# Altium footprint library con-molex-micro-fit-3_0.PCBLIB: 194 footprints (part 11 of 13)
Each footprint in its own frame and in the unit in brackets; x right, y up, seen from the top. Pads: shape width x height; smd on the part's side, far side on the other; paste and mask are expansions set on the pad; w line width, h text height; cw(c..) or ccw(c..) is an arc to the next point about the centre after c.
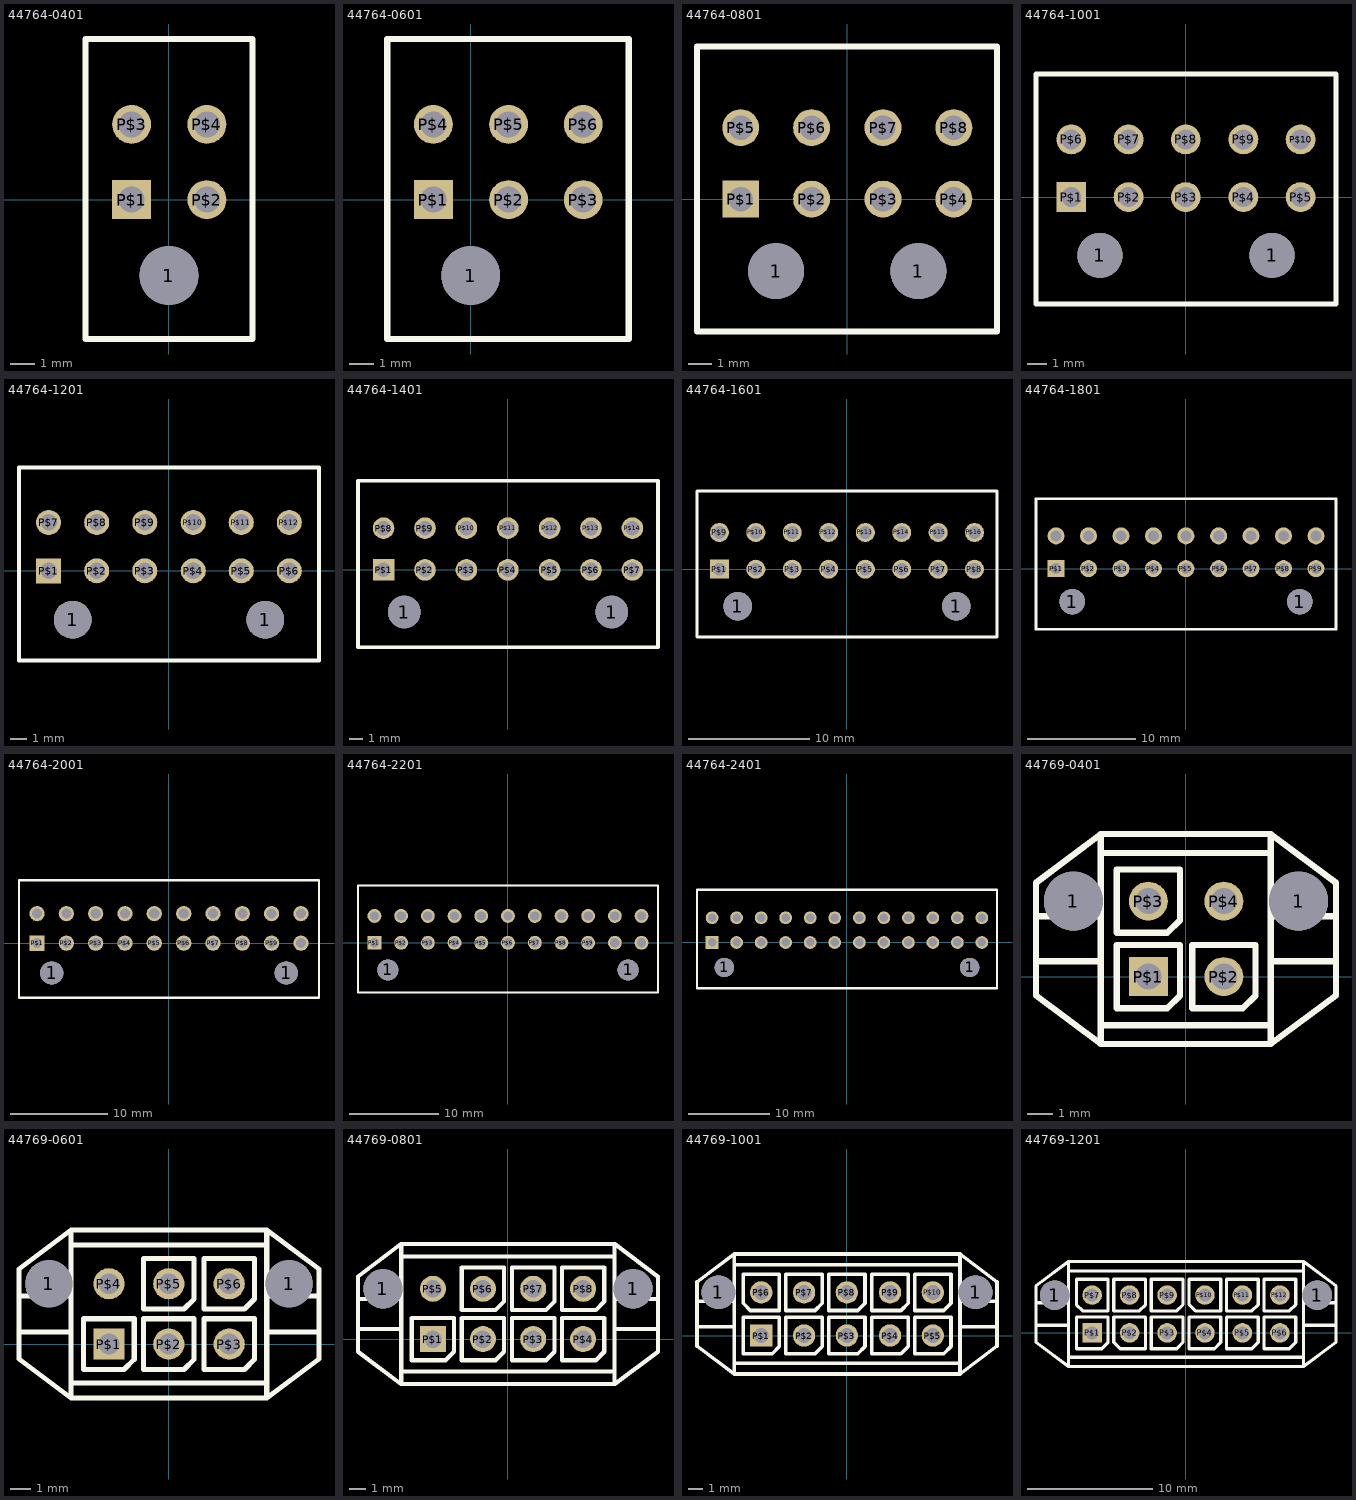
[diagram p10: the footprints below, top view; thin cyan lines are the x and y axes]

## 44764-0401 [mil]
pads (5):
  round 93 hole 93: 1(0,-120.08)
  rect 61.5x61.5 hole 41: P$1(-59.06,0)
  round 61.5 hole 41: P$2(60,0) P$3(-59.06,119) P$4(60,119)
Top Overlay:
  lines w10: -131.89,-220.47 132,-220.47 132,254 -131.89,254 -131.89,-220.47

## 44764-0601 [mil]
pads (7):
  round 93 hole 93: 1(0,-120.08)
  rect 61.5x61.5 hole 41: P$1(-59.06,0)
  round 61.5 hole 41: P$2(60,0) P$3(178,0) P$4(-59.06,119) P$5(60,119) P$6(178,119)
Top Overlay:
  lines w10: -131.89,-220.47 250,-220.47 250,254 -131.89,254 -131.89,-220.47

## 44764-0801 [mil]
pads (10):
  round 93 hole 93: 1(-118.11,-120.08) 1(119,-120.08)
  rect 61.5x61.5 hole 41: P$1(-177.17,0)
  round 61.5 hole 41: P$2(-59.06,0) P$3(60,0) P$4(178,0) P$5(-177.17,119) P$6(-59.06,119) P$7(60,119) P$8(178,119)
Top Overlay:
  lines w10: -250,-220.47 250,-220.47 250,254 -250,254 -250,-220.47

## 44764-1001 [mil]
pads (12):
  round 93 hole 93: 1(-177.17,-120.08) 1(178,-120.08)
  rect 61.5x61.5 hole 41: P$1(-236.22,0)
  round 61.5 hole 41: P$2(-118.11,0) P$3(0,0) P$4(119,0) P$5(237,0) P$6(-236.22,119) P$7(-118.11,119) P$8(0,119) P$9(119,119) P$10(237,119)
Top Overlay:
  lines w10: -309.06,-220.47 310,-220.47 310,254 -309.06,254 -309.06,-220.47

## 44764-1201 [mil]
pads (14):
  round 93 hole 93: 1(-236.22,-120.08) 1(237,-120.08)
  rect 61.5x61.5 hole 41: P$1(-295.28,0)
  round 61.5 hole 41: P$2(-177.17,0) P$3(-59.06,0) P$4(60,0) P$5(178,0) P$6(296,0) P$7(-295.28,119) P$8(-177.17,119) P$9(-59.06,119) P$10(60,119) P$11(178,119) P$12(296,119)
Top Overlay:
  lines w10: -368.11,-220.47 369,-220.47 369,254 -368.11,254 -368.11,-220.47

## 44764-1401 [mil]
pads (16):
  round 93 hole 93: 1(-295.28,-120.08) 1(296,-120.08)
  rect 61.5x61.5 hole 41: P$1(-354.33,0)
  round 61.5 hole 41: P$2(-236.22,0) P$3(-118.11,0) P$4(0,0) P$5(119,0) P$6(237,0) P$7(355,0) P$8(-354.33,119) P$9(-236.22,119) P$10(-118.11,119) P$11(0,119) P$12(119,119) P$13(237,119) P$14(355,119)
Top Overlay:
  lines w10: -427.17,-220.47 428,-220.47 428,254 -427.17,254 -427.17,-220.47

## 44764-1601 [mil]
pads (18):
  round 93 hole 93: 1(-354.33,-120.08) 1(355,-120.08)
  rect 61.5x61.5 hole 41: P$1(-413.39,0)
  round 61.5 hole 41: P$2(-295.28,0) P$3(-177.17,0) P$4(-59.06,0) P$5(60,0) P$6(178,0) P$7(296,0) P$8(414,0) P$9(-413.39,119) P$10(-295.28,119) P$11(-177.17,119) P$12(-59.06,119) P$13(60,119) P$14(178,119) P$15(296,119) P$16(414,119)
Top Overlay:
  lines w10: -486.22,-220.47 487,-220.47 487,254 -486.22,254 -486.22,-220.47

## 44764-1801 [mil]
pads (20):
  round 93 hole 93: 1(-413.39,-120.08) 1(414,-120.08)
  rect 61.5x61.5 hole 41: P$1(-472.44,0)
  round 61.5 hole 41: P$2(-354.33,0) P$3(-236.22,0) P$4(-118.11,0) P$5(0,0) P$6(119,0) P$7(237,0) P$8(355,0) P$9(473,0) P$10(-472.44,119) P$11(-354.33,119) P$12(-236.22,119) P$13(-118.11,119) P$14(0,119) P$15(119,119) P$16(237,119) P$17(355,119) P$18(473,119)
Top Overlay:
  lines w10: -545.28,-220.47 546,-220.47 546,254 -545.28,254 -545.28,-220.47

## 44764-2001 [mil]
pads (22):
  round 93 hole 93: 1(-472.44,-120.08) 1(473,-120.08)
  rect 61.5x61.5 hole 41: P$1(-531.5,0)
  round 61.5 hole 41: P$2(-413.39,0) P$3(-295.28,0) P$4(-177.17,0) P$5(-59.06,0) P$6(60,0) P$7(178,0) P$8(296,0) P$9(414,0) P$10(532,0) P$11(-531.5,119) P$12(-413.39,119) P$13(-295.28,119) P$14(-177.17,119) P$15(-59.06,119) P$16(60,119) P$17(178,119) P$18(296,119) P$19(414,119) P$20(532,119)
Top Overlay:
  lines w10: -604.33,-220.47 605,-220.47 605,254 -604.33,254 -604.33,-220.47

## 44764-2201 [mil]
pads (24):
  round 93 hole 93: 1(-531.5,-120.08) 1(532,-120.08)
  rect 61.5x61.5 hole 41: P$1(-590.55,0)
  round 61.5 hole 41: P$2(-472.44,0) P$3(-354.33,0) P$4(-236.22,0) P$5(-118.11,0) P$6(0,0) P$7(119,0) P$8(237,0) P$9(355,0) P$10(473,0) P$11(591,0) P$12(-590.55,119) P$13(-472.44,119) P$14(-354.33,119) P$15(-236.22,119) P$16(-118.11,119) P$17(0,119) P$18(119,119) P$19(237,119) P$20(355,119) P$21(473,119) P$22(591,119)
Top Overlay:
  lines w10: -663.39,-220.47 664,-220.47 664,254 -663.39,254 -663.39,-220.47

## 44764-2401 [mil]
pads (26):
  round 93 hole 93: 1(-590.55,-120.08) 1(591,-120.08)
  rect 61.5x61.5 hole 41: P$1(-649.61,0)
  round 61.5 hole 41: P$2(-531.5,0) P$3(-413.39,0) P$4(-295.28,0) P$5(-177.17,0) P$6(-59.06,0) P$7(60,0) P$8(178,0) P$9(296,0) P$10(414,0) P$11(532,0) P$12(650,0) P$13(-649.61,119) P$14(-531.5,119) P$15(-413.39,119) P$16(-295.28,119) P$17(-177.17,119) P$18(-59.06,119) P$19(60,119) P$20(178,119) P$21(296,119) P$22(414,119) P$23(532,119) P$24(650,119)
Top Overlay:
  lines w10: -722.44,-220.47 723,-220.47 723,254 -722.44,254 -722.44,-220.47

## 44769-0401 [mil]
pads (6):
  round 93 hole 93: 1(-177.17,119) 1(178,119)
  rect 61.5x61.5 hole 41: P$1(-59.06,0)
  round 61.5 hole 41: P$2(60,0) P$3(-59.06,119) P$4(60,119)
Top Overlay:
  lines w10: -236.22,24 -236.22,-29.53 -133.86,-106.3 ; -236.22,24 -236.22,95 ; -236.22,24 -133.86,24 ; -236.22,95 -236.22,148 -133.86,225 ; -236.22,95 -133.86,95 ; -133.86,-106.3 134,-106.3 ; -133.86,-106.3 -133.86,-76.77 ; -133.86,-76.77 -133.86,24 ; -133.86,-76.77 134,-76.77 ; -133.86,24 -133.86,95 ; -133.86,95 -133.86,195 ; -133.86,195 -133.86,225 ; -133.86,195 134,195 ; -133.86,225 134,225 ; 134,-106.3 237,-29.53 237,24 ; 134,-106.3 134,-76.77 ; 134,-76.77 134,24 ; 134,24 134,95 ; 134,24 237,24 ; 134,95 134,195 ; 134,95 237,95 ; 134,195 134,225 ; 134,225 237,148 237,95 ; 237,24 237,95 ; -109.06,-50 -109.06,50 -9.06,50 -9.06,-30 -29.06,-50 -109.06,-50 ; -109.06,69 -109.06,169 -9.06,169 -9.06,89 -29.06,69 -109.06,69 ; 10,-50 10,50 110,50 110,-30 90,-50 10,-50
Bottom Overlay:
  lines w10: 10,89 10,169 110,169 110,69 30,69 10,89

## 44769-0601 [mil]
pads (8):
  round 93 hole 93: 1(-236.22,119) 1(237,119)
  rect 61.5x61.5 hole 41: P$1(-118.11,0)
  round 61.5 hole 41: P$2(0,0) P$3(119,0) P$4(-118.11,119) P$5(0,119) P$6(119,119)
Top Overlay:
  lines w10: -295.28,24 -295.28,-29.53 -192.91,-106.3 ; -295.28,24 -295.28,95 ; -295.28,24 -192.91,24 ; -295.28,95 -295.28,148 -192.91,225 ; -295.28,95 -192.91,95 ; -192.91,-106.3 193,-106.3 ; -192.91,-106.3 -192.91,-76.77 ; -192.91,-76.77 -192.91,24 ; -192.91,-76.77 193,-76.77 ; -192.91,24 -192.91,95 ; -192.91,95 -192.91,195 ; -192.91,195 -192.91,225 ; -192.91,195 193,195 ; -192.91,225 193,225 ; 193,-106.3 296,-29.53 296,24 ; 193,-106.3 193,-76.77 ; 193,-76.77 193,24 ; 193,24 193,95 ; 193,24 296,24 ; 193,95 193,195 ; 193,95 296,95 ; 193,195 193,225 ; 193,225 296,148 296,95 ; 296,24 296,95 ; -168.11,-50 -168.11,50 -68.11,50 -68.11,-30 -88.11,-50 -168.11,-50 ; -50,-50 -50,50 50,50 50,-30 30,-50 -50,-50 ; -50,69 -50,169 50,169 50,89 30,69 -50,69 ; 69,-50 69,50 169,50 169,-30 149,-50 69,-50 ; 69,69 69,169 169,169 169,89 149,69 69,69
Bottom Overlay:
  lines w10: -168.11,89 -168.11,169 -68.11,169 -68.11,69 -148.11,69 -168.11,89

## 44769-0801 [mil]
pads (10):
  round 93 hole 93: 1(-295.28,119) 1(296,119)
  rect 61.5x61.5 hole 41: P$1(-177.17,0)
  round 61.5 hole 41: P$2(-59.06,0) P$3(60,0) P$4(178,0) P$5(-177.17,119) P$6(-59.06,119) P$7(60,119) P$8(178,119)
Top Overlay:
  lines w10: -354.33,24 -354.33,-29.53 -251.97,-106.3 ; -354.33,24 -354.33,95 ; -354.33,24 -251.97,24 ; -354.33,95 -354.33,148 -251.97,225 ; -354.33,95 -251.97,95 ; -251.97,-106.3 252,-106.3 ; -251.97,-106.3 -251.97,-76.77 ; -251.97,-76.77 -251.97,24 ; -251.97,-76.77 252,-76.77 ; -251.97,24 -251.97,95 ; -251.97,95 -251.97,195 ; -251.97,195 -251.97,225 ; -251.97,195 252,195 ; -251.97,225 252,225 ; 252,-106.3 355,-29.53 355,24 ; 252,-106.3 252,-76.77 ; 252,-76.77 252,24 ; 252,24 252,95 ; 252,24 355,24 ; 252,95 252,195 ; 252,95 355,95 ; 252,195 252,225 ; 252,225 355,148 355,95 ; 355,24 355,95 ; -227.17,-50 -227.17,50 -127.17,50 -127.17,-30 -147.17,-50 -227.17,-50 ; -109.06,-50 -109.06,50 -9.06,50 -9.06,-30 -29.06,-50 -109.06,-50 ; -109.06,69 -109.06,169 -9.06,169 -9.06,89 -29.06,69 -109.06,69 ; 10,-50 10,50 110,50 110,-30 90,-50 10,-50 ; 10,69 10,169 110,169 110,89 90,69 10,69 ; 128,-50 128,50 228,50 228,-30 208,-50 128,-50 ; 128,69 128,169 228,169 228,89 208,69 128,69
Bottom Overlay:
  lines w10: -227.17,89 -227.17,169 -127.17,169 -127.17,69 -207.17,69 -227.17,89

## 44769-1001 [mil]
pads (12):
  round 93 hole 93: 1(-354.33,119) 1(355,119)
  rect 61.5x61.5 hole 41: P$1(-236.22,0)
  round 61.5 hole 41: P$2(-118.11,0) P$3(0,0) P$4(119,0) P$5(237,0) P$6(-236.22,119) P$7(-118.11,119) P$8(0,119) P$9(119,119) P$10(237,119)
Top Overlay:
  lines w10: -413.39,24 -413.39,-29.53 -311.02,-106.3 ; -413.39,24 -413.39,95 ; -413.39,24 -311.02,24 ; -413.39,95 -413.39,148 -311.02,225 ; -413.39,95 -311.02,95 ; -311.02,-106.3 312,-106.3 ; -311.02,-106.3 -311.02,-76.77 ; -311.02,-76.77 -311.02,24 ; -311.02,-76.77 312,-76.77 ; -311.02,24 -311.02,95 ; -311.02,95 -311.02,195 ; -311.02,195 -311.02,225 ; -311.02,195 312,195 ; -311.02,225 312,225 ; 312,-106.3 414,-29.53 414,24 ; 312,-106.3 312,-76.77 ; 312,-76.77 312,24 ; 312,24 312,95 ; 312,24 414,24 ; 312,95 312,195 ; 312,95 414,95 ; 312,195 312,225 ; 312,225 414,148 414,95 ; 414,24 414,95 ; -286.22,-50 -286.22,50 -186.22,50 -186.22,-30 -206.22,-50 -286.22,-50 ; -286.22,89 -286.22,169 -186.22,169 -186.22,69 -266.22,69 -286.22,89 ; -168.11,-50 -168.11,50 -68.11,50 -68.11,-30 -88.11,-50 -168.11,-50 ; -168.11,69 -168.11,169 -68.11,169 -68.11,89 -88.11,69 -168.11,69 ; -50,-50 -50,50 50,50 50,-30 30,-50 -50,-50 ; -50,69 -50,169 50,169 50,89 30,69 -50,69 ; 69,-50 69,50 169,50 169,-30 149,-50 69,-50 ; 69,69 69,169 169,169 169,89 149,69 69,69 ; 187,-50 187,50 287,50 287,-30 267,-50 187,-50 ; 187,69 187,169 287,169 287,89 267,69 187,69

## 44769-1201 [mil]
pads (14):
  round 93 hole 93: 1(-413.39,119) 1(414,119)
  rect 61.5x61.5 hole 41: P$1(-295.28,0)
  round 61.5 hole 41: P$2(-177.17,0) P$3(-59.06,0) P$4(60,0) P$5(178,0) P$6(296,0) P$7(-295.28,119) P$8(-177.17,119) P$9(-59.06,119) P$10(60,119) P$11(178,119) P$12(296,119)
Top Overlay:
  lines w10: -472.44,24 -472.44,-29.53 -370.08,-106.3 ; -472.44,24 -472.44,95 ; -472.44,24 -370.08,24 ; -472.44,95 -472.44,148 -370.08,225 ; -472.44,95 -370.08,95 ; -370.08,-106.3 371,-106.3 ; -370.08,-106.3 -370.08,-76.77 ; -370.08,-76.77 -370.08,24 ; -370.08,-76.77 371,-76.77 ; -370.08,24 -370.08,95 ; -370.08,95 -370.08,195 ; -370.08,195 -370.08,225 ; -370.08,195 371,195 ; -370.08,225 371,225 ; 371,-106.3 473,-29.53 473,24 ; 371,-106.3 371,-76.77 ; 371,-76.77 371,24 ; 371,24 371,95 ; 371,24 473,24 ; 371,95 371,195 ; 371,95 473,95 ; 371,195 371,225 ; 371,225 473,148 473,95 ; 473,24 473,95 ; -345.28,-50 -345.28,50 -245.28,50 -245.28,-30 -265.28,-50 -345.28,-50 ; -345.28,89 -345.28,169 -245.28,169 -245.28,69 -325.28,69 -345.28,89 ; -227.17,-30 -227.17,50 -127.17,50 -127.17,-50 -207.17,-50 -227.17,-30 ; -227.17,69 -227.17,169 -127.17,169 -127.17,89 -147.17,69 -227.17,69 ; -109.06,-50 -109.06,50 -9.06,50 -9.06,-30 -29.06,-50 -109.06,-50 ; -109.06,69 -109.06,169 -9.06,169 -9.06,89 -29.06,69 -109.06,69 ; 10,-50 10,50 110,50 110,-30 90,-50 10,-50 ; 10,89 10,169 110,169 110,69 30,69 10,89 ; 128,-50 128,50 228,50 228,-30 208,-50 128,-50 ; 128,69 128,169 228,169 228,89 208,69 128,69 ; 246,-50 246,50 346,50 346,-30 326,-50 246,-50 ; 246,69 246,169 346,169 346,89 326,69 246,69